# Altium schematic symbol library Components.SchLib: 4 symbols
Pins are listed as number, name and electrical type; pins without a type are passive.

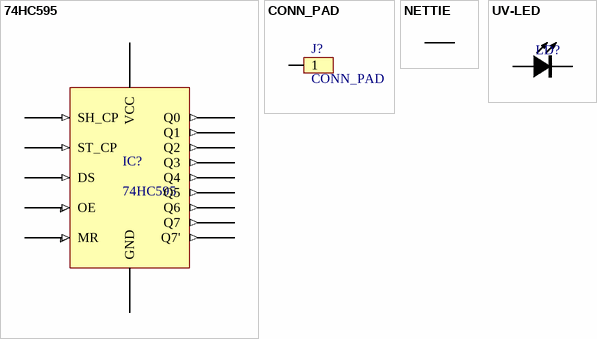
[diagram p0: symbols 74HC595 to UV-LED]

## 74HC595
designator IC?
74HC595 8-bit latched SIPO shift register
footprint SO-16
pins: 1 Q1 (out), 2 Q2 (out), 3 Q3 (out), 4 Q4 (out), 5 Q5 (out), 6 Q6 (out), 7 Q7 (out), 8 GND (power), 9 Q7' (out), 10 MR (in), 11 SH_CP (in), 12 ST_CP (in), 13 OE (in), 14 DS (in), 15 Q0 (out), 16 VCC (power)

## CONN_PAD
designator J?
pins: 1

## NETTIE
designator T?  (net tie, no BOM)
footprint NETTIE
pins: 1 (io), 2 (io)

## UV-LED
designator LD?  (value not drawn)
footprint 0805-LED
pins: A, K